# EAGLE library part AD8418 (library BattBoard)
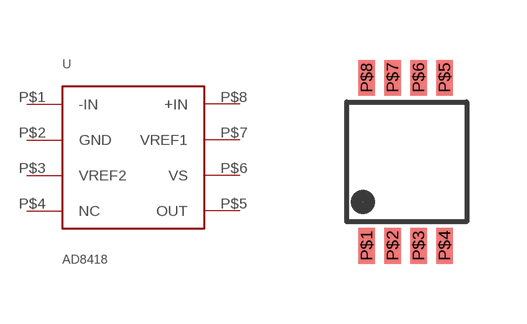
[diagram p4: symbol with the pads of MSOP-8; footprint MSOP-8]

Designator prefix U

## AD8418  [MSOP-8]
P$1  -IN
P$2  GND
P$3  VREF2
P$4  NC
P$5  OUT
P$6  VS
P$7  VREF1
P$8  +IN

## Footprint MSOP-8 (pad centres in mm)
smd 0.42 x 0.89: P$1 0,0; P$2 0.65,0; P$3 1.3,0; P$4 1.95,0; P$5 1.95,4.21; P$6 1.3,4.21; P$7 0.65,4.21; P$8 0,4.21